# Altium schematic symbol library LNJ937W8CRA.Schlib: 1 symbol
Pins are listed as number, name and electrical type; pins without a type are passive.

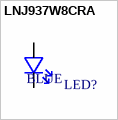
[diagram p0: symbol LNJ937W8CRA]

## LNJ937W8CRA
designator LED?, comment BLUE
LED SM 0603 BLUE 2V9 FWD VOLTAGE
pins: 1, 2